# Altium footprint library stm8电机控制原理图.PcbLib: 34 footprints (part 2 of 3)
Each footprint in its own frame and in the unit in brackets; x right, y up, seen from the top. Pads: shape width x height; smd on the part's side, far side on the other; paste and mask are expansions set on the pad; w line width, h text height; cw(c..) or ccw(c..) is an arc to the next point about the centre after c.
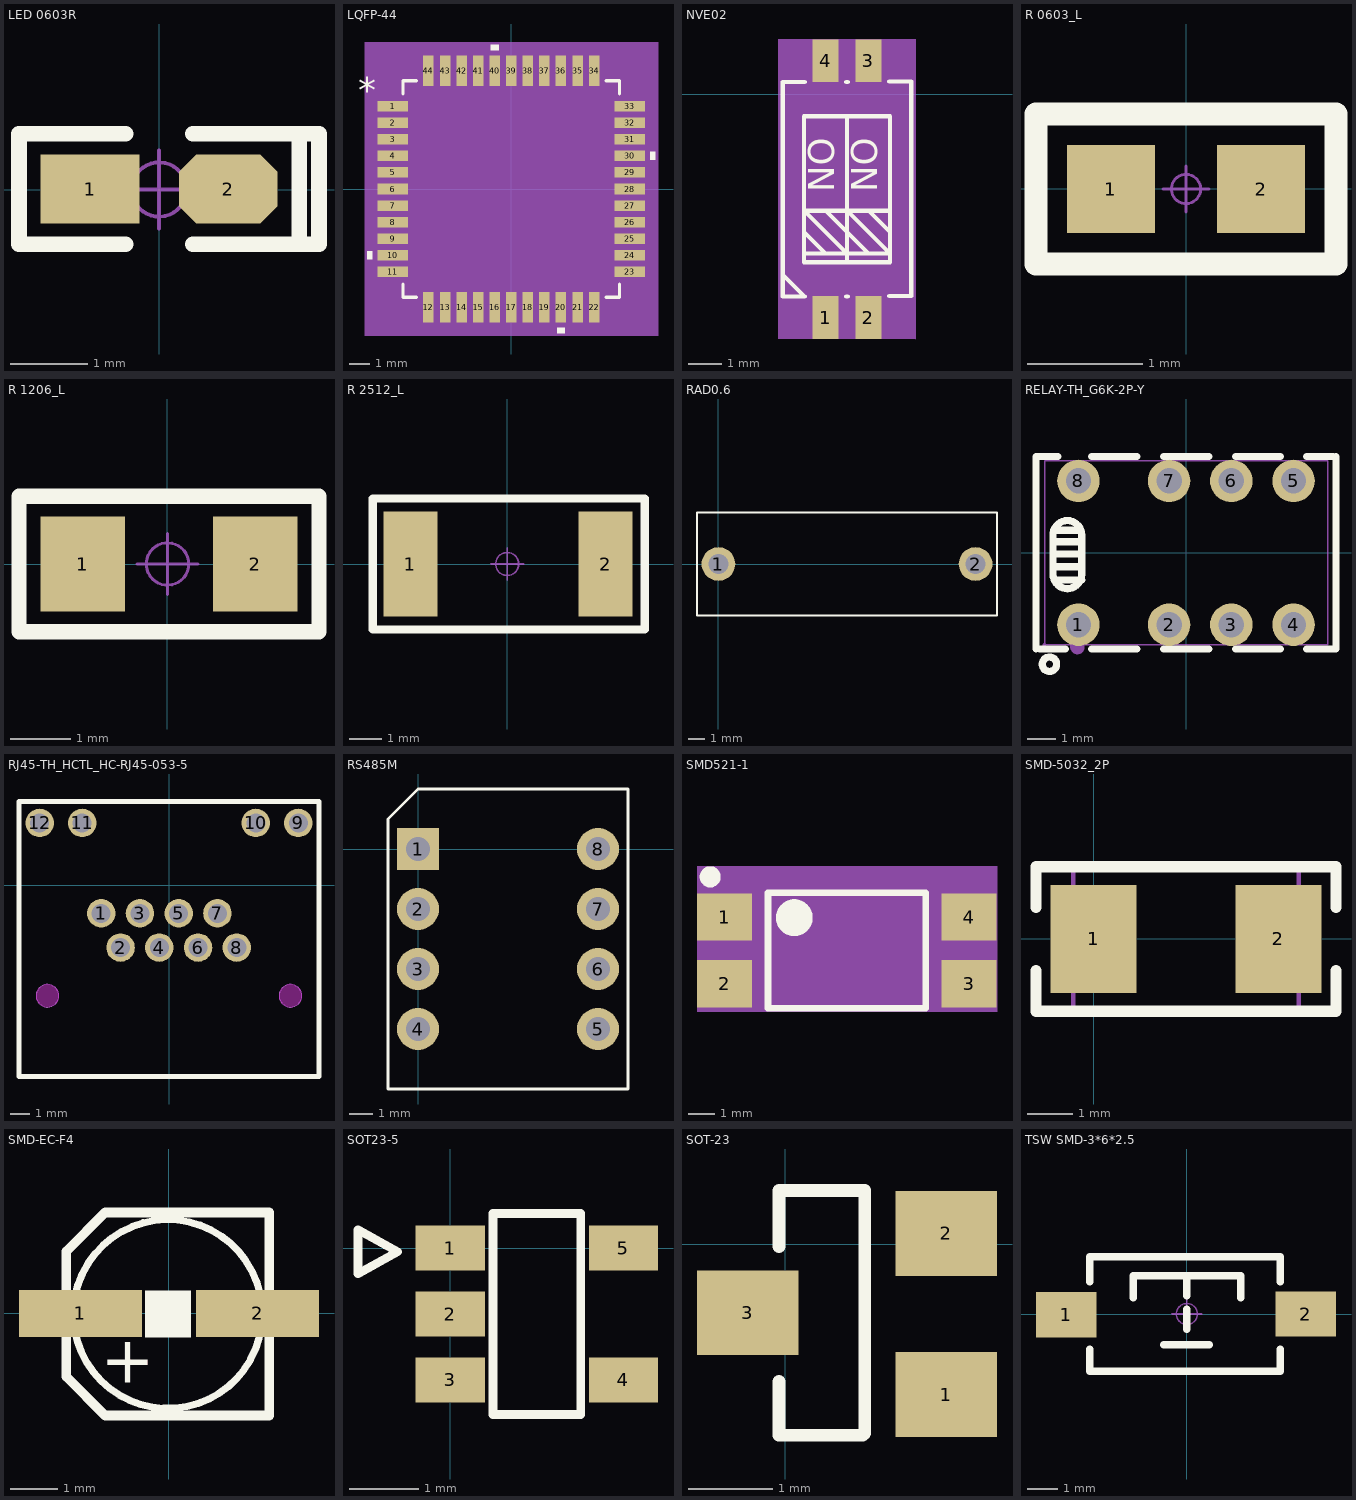
[diagram p1: the footprints below, top view; thin cyan lines are the x and y axes]

## LED 0603R [mil]
height 322.83
pads (2):
  rect 50x35 smd: 1(-35,0.26)
  oct 50x35 smd: 2(35,0.26)
Top Overlay:
  lines w8: -17,-27.74 -71,-27.74 -71,-25.74 -71,28.26 -70,28.26 -17,28.26 ; 17,-27.74 70,-27.74 ; 17,28.26 71,28.26 81,28.26 81,-27.74 71,-27.74 71,26.26
Mechanical 15:
  circle w1.97: c0,0 r13.78
  lines w1.97: -19.68,0 19.69,0 ; 0,-19.68 0,19.69
3D body "LED 0603-R.STEP": height 18.36, standoff -0.16, extent -31.5,-15.79 31.5,15.79
3D body "LED 0603玻璃罩.": height 0, standoff 0, extent 0,0 0,0

## LQFP-44 [mil]
pads (44):
  rect 58x20 smd paste+0 mask+0: 1(-225,157.48) 2(-225,125.98) 3(-225,94.49) 4(-225,62.99) 5(-225,31.5) 6(-225,0) 7(-225,-31.5) 8(-225,-62.99) 9(-225,-94.49) 10(-225,-125.98) 11(-225,-157.48) 23(225,-157.48) 24(225,-125.98) 25(225,-94.49) 26(225,-62.99) 27(225,-31.5) 28(225,0) 29(225,31.5) 30(225,62.99) 31(225,94.49) 32(225,125.98) 33(225,157.48)
  rect 20x58 smd paste+0 mask+0: 12(-157.48,-225) 13(-125.98,-225) 14(-94.49,-225) 15(-62.99,-225) 16(-31.5,-225) 17(0,-225) 18(31.5,-225) 19(62.99,-225) 20(94.49,-225) 21(125.98,-225) 22(157.48,-225) 34(157.48,225) 35(125.98,225) 36(94.49,225) 37(62.99,225) 38(31.5,225) 39(0,225) 40(-31.5,225) 41(-62.99,225) 42(-94.49,225) 43(-125.98,225) 44(-157.48,225)
Top Overlay:
  region: -264,-118.48 -274,-118.48 -274,-133.48 -264,-133.48
  region: 101.99,-264 86.99,-264 86.99,-274 101.99,-274
  region: 264,70.49 274,70.49 274,55.49 264,55.49
  region: -24,264 -39,264 -39,274 -24,274
  lines w6: -206,-180.58 -206,-206 -180.58,-206 ; -206,180.58 -206,206 -180.58,206 ; 180.58,-206 206,-206 206,-180.58 ; 180.58,206 206,206 206,180.58
  text "*" at -291.5,163.23 h50
Mechanical 5:
  region: 279,-279 -279,-279 -279,279 279,279
Mechanical 13:
  drawing of 181 lines, arcs and shapes, not listed
  text "*" at -198.5,148.23 h50
Mechanical 15:
  region: -177.48,-211 -211,-211 -211,-177.48 -270,-177.48 -270,177.48 -211,177.48 -211,211 -177.48,211 -177.48,270 177.48,270 177.48,211 211,211 211,177.48 270,177.48 270,-177.48 211,-177.48 211,-211 177.48,-211 177.48,-270 -177.48,-270
  lines w6: -270,-177.48 -211,-177.48 -211,-211 -177.48,-211 -177.48,-270 177.48,-270 177.48,-211 211,-211 211,-177.48 270,-177.48 270,177.48 211,177.48 211,211 177.48,211 177.48,270 -177.48,270 -177.48,211 -211,211 -211,177.48 -270,177.48 -270,-177.48
3D body "LQFP-44.step": height 63.11, standoff 0, extent -240,-240 240,240

## NVE02 [mil]
pads (4):
  rect 30x50 smd: 1(-290,-260) 2(-240,-260) 3(-240,39.21) 4(-290,39.21)
Top Overlay:
  lines w5: -340,-209.8 -314.4,-235.39 -314.1,-235.39 -340,-235.39 -340,14.61 -314.1,14.61 ; -315,-185.39 -265,-185.39 ; -315,-160.39 -290,-185.39 ; -290,-135.39 -265,-160.39 -240,-185.39 ; -265.9,-235.39 -264.1,-235.39 ; -265.9,14.61 -264.1,14.61 ; -240,-135.39 -215,-160.39 ; -215.9,-235 -190,-235 -190,15 -215.9,15 ; -215,-135.39 -265,-135.39 ; -265,-195.39 -265,-25.39 ; -265,-195.39 -265,-25.39 ; -265,-195.39 -265,-25.39 ; -265,-195.39 -265,-25.39 ; -265,-195.39 -265,-25.39 ; -265,-195.39 -215,-195.39 ; -265,-195.39 -265,-25.39 ; -265,-195.39 -315,-195.39 -315,-25.39 -265,-25.39 ; -265,-185.39 -315,-135.39 -265,-135.39 ; -265,-185.39 -215,-185.39 -265,-135.39 ; -265,-25.39 -215,-25.39 ; -215,-195.39 -215,-25.39 ; -215,-195.39 -215,-25.39 ; -215,-195.39 -215,-25.39 ; -215,-195.39 -215,-25.39
  text "ON" at -260,-50.39 h30
  text "ON" at -310,-50.39 h30
Mechanical 4:
  region: -345,64.61 -185,64.61 -185,-285 -345,-285
Mechanical 5:
  region: -305,-235 -275,-235 -275,-285 -305,-285
  region: -305,64.21 -275,64.21 -275,14.21 -305,14.21
  region: -255,64.21 -225,64.21 -225,14.21 -255,14.21
  region: -255,-235 -225,-235 -225,-285 -255,-285
Mechanical 15:
  lines w0.1: -216,-92.45 -214,-90.45

## R 0603_L [mil]
height 322.83
pads (2):
  rect 30x30 smd: 1(-25.59,0) 2(25.59,0)
Top Overlay:
  lines w8: -51.18,-25.59 -51.18,25.59 51.18,25.59 51.18,-25.59 -51.18,-25.59
Mechanical 15:
  circle w1: c0,0 r5
  lines w1: -7.87,0 7.87,0 ; 0,-7.87 0,7.87
3D body "R 0603.STEP": height 15.79, standoff -0.13, extent -31.5,-15.75 31.5,15.75

## R 1206_L [mil]
height 322.83
pads (2):
  rect 55x62 smd: 1(-55.12,0) 2(57.09,0)
Top Overlay:
  lines w10: -96.46,-44 -96.46,44 98.43,44 98.43,-44 -96.46,-44
Mechanical 15:
  circle w1.97: c0,0 r13.78
  lines w1.97: -19.69,0 19.68,0 ; 0,-19.69 0,19.68
3D body "R 1206.STEP": height 21.69, standoff -0.24, extent -62.99,-31.49 63,31.5

## R 2512_L [mm]
height 8.2
pads (2):
  rect 1.65x3.2 smd: 1(-2.95,0) 2(3,0)
Top Overlay:
  lines w0.254: -4.1,-2 4.2,-2 4.2,2 -4.1,2 -4.1,-2
Mechanical 15:
  circle w0.05: c0,0 r0.35
  lines w0.05: -0.5,0 0.5,0 ; 0,-0.5 0,0.5
3D body "R 2512.STEP": height 0.55, standoff -0.02, extent -3.2,-1.6 3.2,1.6

## RAD0.6 [mm]
pads (2):
  round 2 hole 1.2: 1(0,0) 2(15.24,0)
Top Overlay:
  lines w0.127: -1.27,-3.048 -1.27,0 -1.27,3.048 16.51,3.048 16.51,-3.048 -1.27,-3.048

## RELAY-TH_G6K-2P-Y [mil]
pads (8):
  round 59.1 hole 35.4 mask+2: 1(-149.6,-100) 2(-23.6,-100) 3(63,-100) 4(149.6,-100) 5(149.6,100) 6(63,100) 7(-23.6,100) 8(-149.6,100)
Top Overlay:
  circle w10: c-190,-155 r10
  lines w10: -208.7,-133.9 -208.7,113 -208.7,133.9 -178.5,133.9 ; -204,-133.9 -168.1,-133.9 ; -185,-19.5 -145,-19.5 ; -185,-1.5 -145,-1.5 ; -185,15.5 -145,15.5 ; -183.9,31.3 -146,31.3 ; -183.4,-37.7 -145,-37.7 ; -131.1,-133.9 -68.1,-133.9 ; -131.1,133.9 -68.1,133.9 ; -31.1,-133.9 31.9,-133.9 ; -31.1,133.9 31.9,133.9 ; 68.9,-133.9 131.1,-133.9 ; 68.9,133.9 131.1,133.9 ; 168.1,-133.9 208.7,-133.9 208.7,133.9 ; 168.1,133.9 205,133.9 ; -185,-30 ccw(c-165,-29.86) -145,-29.99 -145,25 ccw(c-165,24.86) -185,25 -185,-30
Mechanical 6:
  circle w10: c-151.1,-131.2 r5
Mechanical 15:
  drawing of 13 lines, arcs and shapes, not listed

## RJ45-TH_HCTL_HC-RJ45-053-5 [mm]
pads (12):
  round 1.5 hole 1 mask+0.05: 1(-3.57,-1.48) 2(-2.55,-3.28) 3(-1.53,-1.48) 4(-0.51,-3.28) 5(0.51,-1.48) 6(1.53,-3.28) 7(2.55,-1.48) 8(3.57,-3.28) 9(6.81,3.28) 10(4.57,3.28) 11(-4.57,3.28) 12(-6.81,3.28)
Top Overlay:
  lines w0.254: -7.9,-10.08 -7.9,4.42 7.9,4.42 7.9,-10.08 -7.9,-10.08
Keep-Out Layer:
  board cut-out: -5.8,-5.82 -5.8,-5.701 -5.891,-5.48 -6.06,-5.311 -6.281,-5.22 -6.519,-5.22 -6.74,-5.311 -6.909,-5.48 -7,-5.701 -7,-5.82 -7,-5.939 -6.909,-6.16 -6.74,-6.329 -6.519,-6.42 -6.281,-6.42 -6.06,-6.329 -5.891,-6.16 -5.8,-5.939
  board cut-out: 7,-5.82 7,-5.701 6.909,-5.48 6.74,-5.311 6.519,-5.22 6.281,-5.22 6.06,-5.311 5.891,-5.48 5.8,-5.701 5.8,-5.82 5.8,-5.939 5.891,-6.16 6.06,-6.329 6.281,-6.42 6.519,-6.42 6.74,-6.329 6.909,-6.16 7,-5.939
Mechanical 1:
  circle w0.005: c-6.4,-5.82 r0.6
  circle w0.005: c6.4,-5.82 r0.6

## RS485M [mil]
pads (8):
  rect 70x70 hole 40: 1(0,0)
  round 70 hole 40: 2(0,-100) 3(0,-200) 4(0,-300) 5(300,-300) 6(300,-200) 7(300,-100) 8(300,0)
Top Overlay:
  lines w5: -50,-400 -50,50 0,100 350,100 350,-400 -50,-400

## SMD521-1 [mm]
pads (4):
  rect 2.1x1.8 smd: 1(-20.857,13.716) 2(-20.857,11.176) 3(-11.557,11.176) 4(-11.557,13.716)
Top Overlay:
  lines w0.254: -19.207,10.246 -19.207,14.646 -13.207,14.646 -13.207,10.246 -19.207,10.246
  lines w0.4: -21.406,15.446 ccw(c-21.405,15.246) -21.404,15.446
  lines w0.7: -18.206,14.046 ccw(c-18.203,13.696) -18.201,14.046
Mechanical 4:
  region: -21.907,15.646 -10.494,15.646 -10.494,10.119 -21.907,10.119
Mechanical 5:
  region: -12.607,14.616 -10.507,14.616 -10.507,12.816 -12.607,12.816
  region: -12.607,12.076 -10.507,12.076 -10.507,10.276 -12.607,10.276
  region: -21.907,12.076 -19.807,12.076 -19.807,10.276 -21.907,10.276
  region: -21.907,14.616 -19.807,14.616 -19.807,12.816 -21.907,12.816
Mechanical 15:
  lines w0.003: -16.226,13.306 -16.175,13.357

## SMD-5032_2P [mm]
pads (2):
  rect 1.9x2.4 smd: 1(0,0) 2(4.1,0)
Top Overlay:
  lines w0.254: -1.275,-0.7 -1.275,-1.6 5.375,-1.6 5.375,-0.7 ; -1.275,0.7 -1.275,1.6 5.375,1.6 5.375,0.7
Mechanical 13:
  lines w0.1: -0.45,-1.6 -0.45,1.6 4.55,1.6 4.55,-1.6 -0.45,-1.6

## SMD-EC-F4 [mm]
pads (2):
  rect 2.6x1 smd: 1(-1.877,0) 2(1.877,0)
Top Overlay:
  rectangle: -0.51,-0.51 0.467,0.488
  lines w0.152: 1.748,0.913 ccw(c-0.025,-0.011) 1.75,0.91
  lines w0.203: 2.124,2.14 -1.351,2.14 -2.177,1.314 -2.177,-1.336 -1.351,-2.161 2.125,-2.161 2.125,2.139
  text "+" at -1.442,-1.471 h1
3D body "User Library-CAP SMD SVP 4_0x5_4.STEP": height 5.5, standoff 0.1, extent -2.525,-2.15 2.475,2.15

## SOT23-5 [mm]
pads (5):
  rect 1x0.65 smd: 1(0,0) 2(0,-0.95) 3(0,-1.9) 4(2.5,-1.9) 5(2.5,0)
Top Overlay:
  lines w0.127: -1.333,-0.368 -1.333,0.267 -0.762,-0.05 -1.333,-0.368 ; 0.615,-2.4 1.885,-2.4 1.885,0.5 0.615,0.5 0.615,-2.4

## SOT-23 [mm]
pads (3):
  rect 1.2x1 smd: 1(1.905,-1.778) 2(1.905,0.127) 3(-0.445,-0.813)
Top Overlay:
  lines w0.152: -0.076,-1.626 -0.076,-2.261 0.914,-2.261 0.94,-2.235 0.94,0.635 -0.076,0.635 -0.076,-0.025

## TSW SMD-3*6*2.5 [mm]
height 8.2
pads (2):
  rect 2x1.5 smd: 1(-3.996,-0.02) 2(3.937,0)
Top Overlay:
  lines w0.254: -3.212,-1.168 -3.212,-1.9 3.088,-1.9 3.088,-1.168 ; -3.212,1.067 -3.212,1.9 3.088,1.9 3.088,1.067 ; -1.778,0.533 -1.778,1.27 1.778,1.27 1.778,0.533 ; -0.762,-1.016 0.737,-1.016 ; 0,-0.508 0,0.152 ; 0,0.61 0,1.27
Mechanical 15:
  circle w0.05: c0,0 r0.35
  lines w0.05: -0.5,0 0.5,0 ; 0,-0.5 0,0.5
3D body "TSW SMD-3x6x2.5.STEP": height 2.59, standoff -0.03, extent -4,-1.877 4,1.623